# Altium footprint library F839C0200051.PcbLib: 1 footprints
Each footprint in its own frame and in the unit in brackets; x right, y up, seen from the top. Pads: shape width x height; smd on the part's side, far side on the other; paste and mask are expansions set on the pad; w line width, h text height; cw(c..) or ccw(c..) is an arc to the next point about the centre after c.
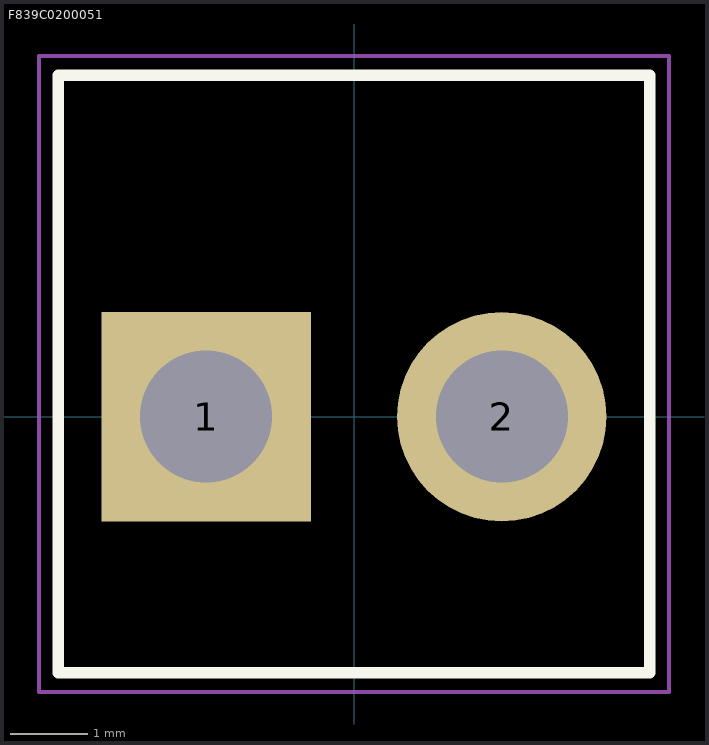
[diagram p0: the footprint, top view; thin cyan lines are the x and y axes]

## F839C0200051 [mm]
height 11
pads (2):
  rect 2.7x2.7 hole 1.7: 1(-1.905,0)
  round 2.7 hole 1.7: 2(1.905,0)
Top Overlay:
  lines w0.152: -3.81,-3.3 3.81,-3.3 3.81,4.4 -3.81,4.4 -3.81,-3.3
Mechanical 13:
  lines w0.1: -3.81,-3.3 -3.81,4.4 3.81,4.4 3.81,-3.3 -3.81,-3.3
Mechanical 15:
  lines w0.05: -4.06,-3.55 4.06,-3.55 4.06,4.65 -4.06,4.65 -4.06,-3.55
3D body: height 11, standoff -4.5, extent -3.81,-3.3 3.81,4.4